# Altium footprint library ps2.PcbLib: 1 footprints
Each footprint in its own frame and in the unit in brackets; x right, y up, seen from the top. Pads: shape width x height; smd on the part's side, far side on the other; paste and mask are expansions set on the pad; w line width, h text height; cw(c..) or ccw(c..) is an arc to the next point about the centre after c.
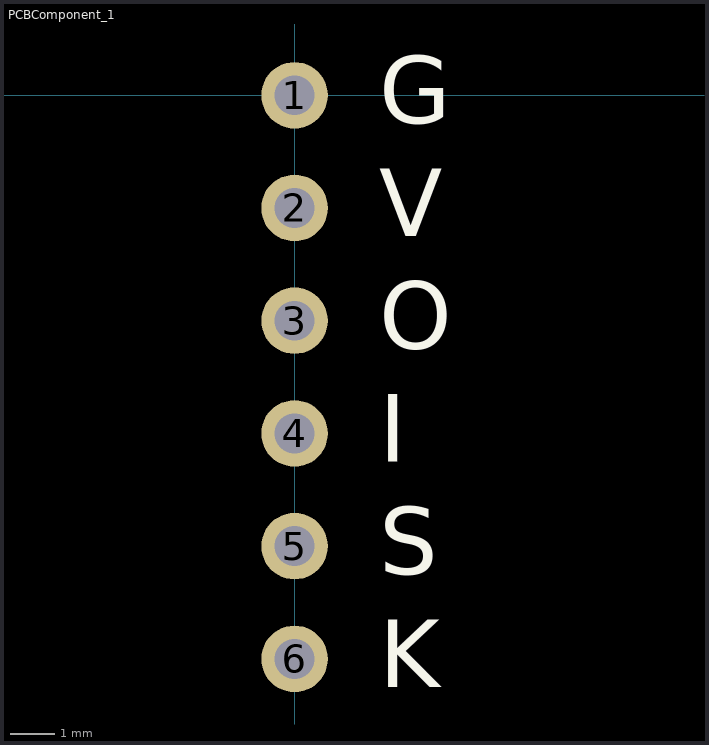
[diagram p0: the footprint, top view; thin cyan lines are the x and y axes]

## PCBComponent_1 [mm]
pads (6):
  round 1.5 hole 0.9: 1(0,0) 2(0,-2.54) 3(0,-5.08) 4(0,-7.62) 5(0,-10.16) 6(0,-12.7)
Top Overlay:
  text "K" at 1.905,-13.335 h1.52
  text "S" at 1.905,-10.795 h1.52
  text "I" at 1.905,-8.255 h1.52
  text "O" at 1.905,-5.715 h1.52
  text "V" at 1.905,-3.175 h1.52
  text "G" at 1.905,-0.635 h1.52